# Altium footprint library CE_5x11.PcbLib: 1 footprints
Each footprint in its own frame and in the unit in brackets; x right, y up, seen from the top. Pads: shape width x height; smd on the part's side, far side on the other; paste and mask are expansions set on the pad; w line width, h text height; cw(c..) or ccw(c..) is an arc to the next point about the centre after c.
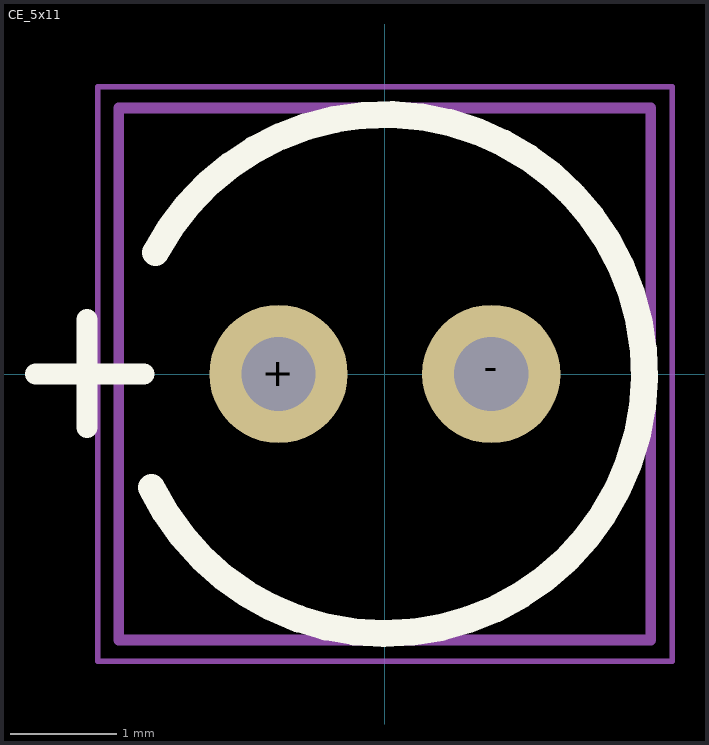
[diagram p0: the footprint, top view; thin cyan lines are the x and y axes]

## CE_5x11 [mm]
height 11
pads (2):
  round 1.3 hole 0.7: +(-1,0) -(1,0)
Top Overlay:
  lines w0.2: -3.281,0 -2.265,0 ; -2.8,-0.504 -2.8,0.512
  lines w0.254: -2.195,-1.065 ccw(c0,0) -2.157,1.141
Top Assembly:
  lines w0.1: -2.5,-2.5 -2.5,2.5 2.5,2.5 2.5,-2.5 -2.5,-2.5
Top Courtyard:
  lines w0.05: -2.7,-2.7 2.7,-2.7 2.7,2.7 -2.7,2.7 -2.7,-2.7
Top Designator:
  text ".Designator" at -5.018,-0.333 h1
3D body "User Library-ECAP5_11_20.STEP": height 11, standoff -2.3, extent -2.5,-2.498 2.5,2.498